# Altium schematic symbol library ACS724LLCTR-05AU-T.SchLib: 1 symbol
Pins are listed as number, name and electrical type; pins without a type are passive.

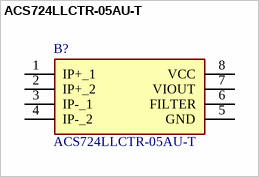
[diagram p0: symbol ACS724LLCTR-05AU-T]

## ACS724LLCTR-05AU-T
designator B?
High-Accuracy, 5V Isolated Current Sensor with Stray Field Rejection; Manufacturer_Name: Allegro Microsystems; Geometry.Height: 1.75mm; Mouser Part Number: 250-724LLCTR05AUT; Mouser Price/Stock: https://www.mouser.co.uk/ProductDetail/Allegro-MicroSystems/ACS724LLCTR-05AU-T?qs=pUKx8fyJudC3f6AQOezPDA%3D%3D; Manufacturer_Part_Number: ACS724LLCTR-05AU-T; Datasheet Link: https://www.allegromicro.com/~/media/files/datasheets/acs724-datasheet.pdf
footprint SOIC127P600X175-8N
pins: 1 IP+_1, 2 IP+_2, 3 IP-_1, 4 IP-_2, 5 GND, 6 FILTER, 7 VIOUT, 8 VCC